# Altium footprint library bluetooth.PcbLib: 1 footprints
Each footprint in its own frame and in the unit in brackets; x right, y up, seen from the top. Pads: shape width x height; smd on the part's side, far side on the other; paste and mask are expansions set on the pad; w line width, h text height; cw(c..) or ccw(c..) is an arc to the next point about the centre after c.
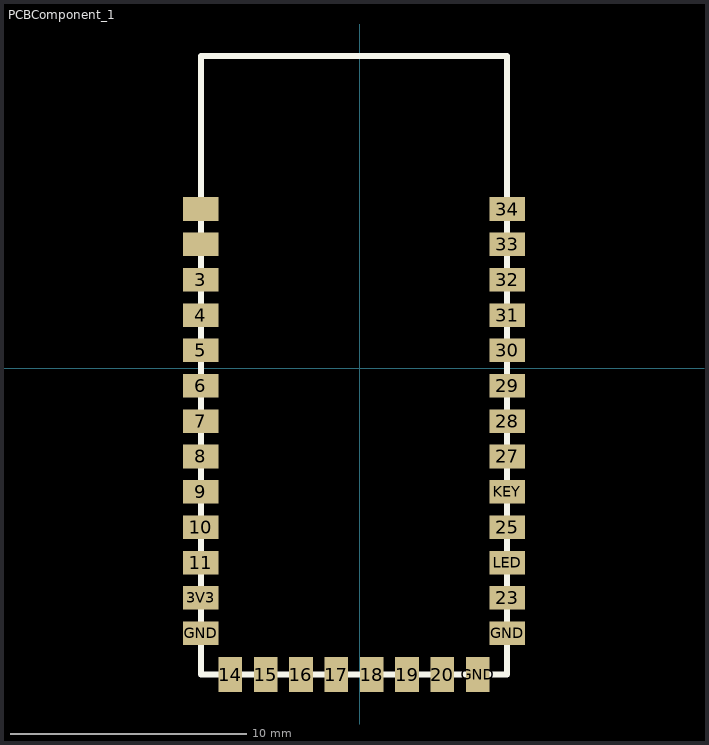
[diagram p0: the footprint, top view; thin cyan lines are the x and y axes]

## PCBComponent_1 [mm]
pads (34):
  rect 1.5x1 smd: 3(-6.75,3.75) 3V3(-6.75,-9.75) 4(-6.75,2.25) 5(-6.75,0.75) 6(-6.75,-0.75) 7(-6.75,-2.25) 8(-6.75,-3.75) 9(-6.75,-5.25) 10(-6.75,-6.75) 11(-6.75,-8.25) 23(6.25,-9.75) 25(6.25,-6.75) 27(6.25,-3.75) 28(6.25,-2.25) 29(6.25,-0.75) 30(6.25,0.75) 31(6.25,2.25) 32(6.25,3.75) 33(6.25,5.25) 34(6.25,6.75) GND(-6.75,-11.25) GND(6.25,-11.25) KEY(6.25,-5.25) LED(6.25,-8.25) UART_RXD(-6.75,5.25) UART_TXD(-6.75,6.75)
  rect 1x1.5 smd: 14(-5.5,-13) 15(-4,-13) 16(-2.5,-13) 17(-1,-13) 18(0.5,-13) 19(2,-13) 20(3.5,-13) GND(5,-13)
Top Overlay:
  lines w0.254: -6.75,-13 -6.75,13.25 6.25,13.25 6.25,-13 -6.75,-13